# Altium schematic symbol library CAP,Trim,10-50pF,100V,Thru.Schlib: 1 symbol
Pins are listed as number, name and electrical type; pins without a type are passive.

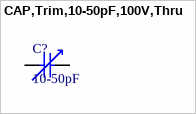
[diagram p0: symbol CAP,Trim,10-50pF,100V,Thru]

## CAP,Trim,10-50pF,100V,Thru
designator C?, comment 10-50pF
10 ~ 50pF Trimmer Capacitor 100 V Top Through Hole
pins: 1, 2